# Altium footprint library SMD-4.PcbLib: 1 footprints
Each footprint in its own frame and in the unit in brackets; x right, y up, seen from the top. Pads: shape width x height; smd on the part's side, far side on the other; paste and mask are expansions set on the pad; w line width, h text height; cw(c..) or ccw(c..) is an arc to the next point about the centre after c.
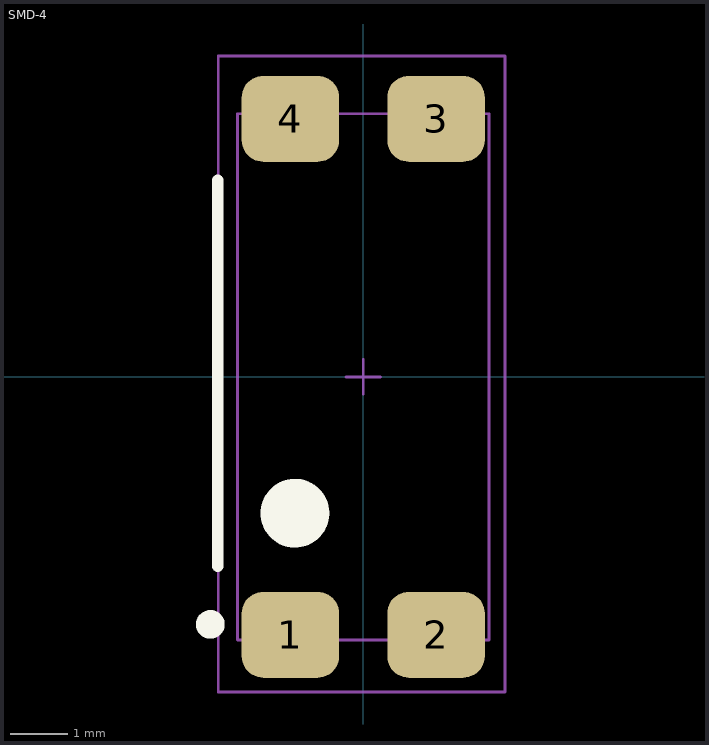
[diagram p0: the footprint, top view; thin cyan lines are the x and y axes]

## SMD-4 [mm]
pads (4):
  rrect50% 1.7x1.5 smd: 1(-1.27,-4.5) 2(1.27,-4.5) 3(1.27,4.5) 4(-1.27,4.5)
Top Overlay:
  circle w0.25: c-2.667,-4.318 r0.125
  circle w0.6: c-1.191,-2.378 r0.3
  lines w0.2: -2.54,-3.302 -2.54,3.429
Top Assembly:
  circle w0.1: c-1.191,-2.378 r0.5
  lines w0.05: -0.3,0 0.3,0 ; 0,-0.3 0,0.3 ; -2.195,-4.59 -2.195,4.59 2.195,4.59 2.195,-4.59 -2.195,-4.59
Top Courtyard:
  lines w0.05: -2.53,-5.5 -2.53,-4.616 -2.53,5.6 2.47,5.6 2.47,-5.5 -2.53,-5.5
3D body "User Library-LAN0019-01.step": height 2.2, standoff 0, extent -2.195,-4.59 2.195,4.59